# Altium footprint library WalnutPi-CM1.PcbLib: 1 footprints
Each footprint in its own frame and in the unit in brackets; x right, y up, seen from the top. Pads: shape width x height; smd on the part's side, far side on the other; paste and mask are expansions set on the pad; w line width, h text height; cw(c..) or ccw(c..) is an arc to the next point about the centre after c.
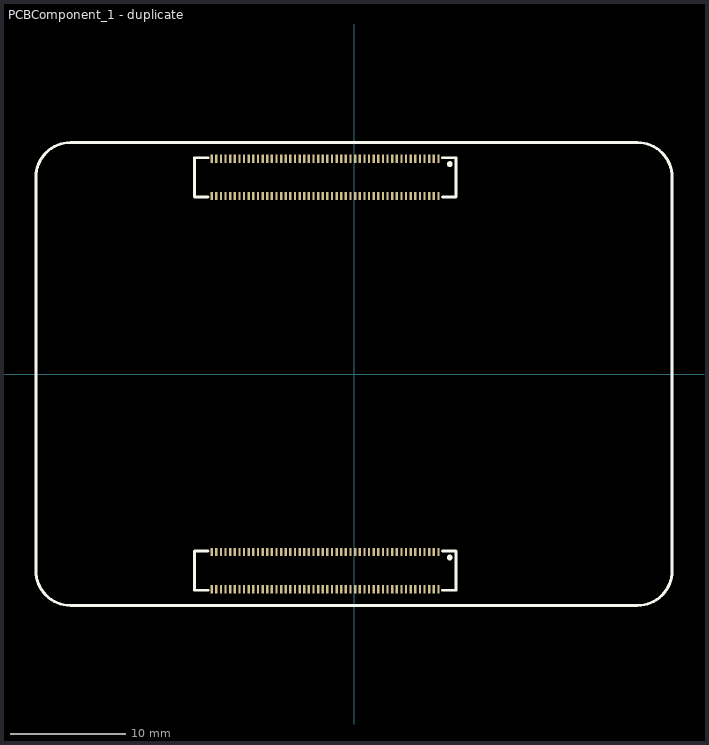
[diagram p0: the footprint, top view; thin cyan lines are the x and y axes]

## PCBComponent_1 - duplicate [mm]
pads (200):
  rect 0.2x0.7 smd: 1(7.3,18.6) 2(7.3,15.4) 3(6.9,18.6) 4(6.9,15.4) 5(6.5,18.6) 6(6.5,15.4) 7(6.1,18.6) 8(6.1,15.4) 9(5.7,18.6) 10(5.7,15.4) 11(5.3,18.6) 12(5.3,15.4) 13(4.9,18.6) 14(4.9,15.4) 15(4.5,18.6) 16(4.5,15.4) 17(4.1,18.6) 18(4.1,15.4) 19(3.7,18.6) 20(3.7,15.4) 21(3.3,18.6) 22(3.3,15.4) 23(2.9,18.6) 24(2.9,15.4) 25(2.5,18.6) 26(2.5,15.4) 27(2.1,18.6) 28(2.1,15.4) 29(1.7,18.6) 30(1.7,15.4) 31(1.3,18.6) 32(1.3,15.4) 33(0.9,18.6) 34(0.9,15.4) 35(0.5,18.6) 36(0.5,15.4) 37(0.1,18.6) 38(0.1,15.4) 39(-0.3,18.6) 40(-0.3,15.4) 41(-0.7,18.6) 42(-0.7,15.4) 43(-1.1,18.6) 44(-1.1,15.4) 45(-1.5,18.6) 46(-1.5,15.4) 47(-1.9,18.6) 48(-1.9,15.4) 49(-2.3,18.6) 50(-2.3,15.4) 51(-2.7,18.6) 52(-2.7,15.4) 53(-3.1,18.6) 54(-3.1,15.4) 55(-3.5,18.6) 56(-3.5,15.4) 57(-3.9,18.6) 58(-3.9,15.4) 59(-4.3,18.6) 60(-4.3,15.4) 61(-4.7,18.6) 62(-4.7,15.4) 63(-5.1,18.6) 64(-5.1,15.4) 65(-5.5,18.6) 66(-5.5,15.4) 67(-5.9,18.6) 68(-5.9,15.4) 69(-6.3,18.6) 70(-6.3,15.4) 71(-6.7,18.6) 72(-6.7,15.4) 73(-7.1,18.6) 74(-7.1,15.4) 75(-7.5,18.6) 76(-7.5,15.4) 77(-7.9,18.6) 78(-7.9,15.4) 79(-8.3,18.6) 80(-8.3,15.4) 81(-8.7,18.6) 82(-8.7,15.4) 83(-9.1,18.6) 84(-9.1,15.4) 85(-9.5,18.6) 86(-9.5,15.4) 87(-9.9,18.6) 88(-9.9,15.4) 89(-10.3,18.6) 90(-10.3,15.4) 91(-10.7,18.6) 92(-10.7,15.4) 93(-11.1,18.6) 94(-11.1,15.4) 95(-11.5,18.6) 96(-11.5,15.4) 97(-11.9,18.6) 98(-11.9,15.4) 99(-12.3,18.6) 100(-12.3,15.4) 101(7.3,-15.4) 102(7.3,-18.6) 103(6.9,-15.4) 104(6.9,-18.6) 105(6.5,-15.4) 106(6.5,-18.6) 107(6.1,-15.4) 108(6.1,-18.6) 109(5.7,-15.4) 110(5.7,-18.6) 111(5.3,-15.4) 112(5.3,-18.6) 113(4.9,-15.4) 114(4.9,-18.6) 115(4.5,-15.4) 116(4.5,-18.6) 117(4.1,-15.4) 118(4.1,-18.6) 119(3.7,-15.4) 120(3.7,-18.6) 121(3.3,-15.4) 122(3.3,-18.6) 123(2.9,-15.4) 124(2.9,-18.6) 125(2.5,-15.4) 126(2.5,-18.6) 127(2.1,-15.4) 128(2.1,-18.6) 129(1.7,-15.4) 130(1.7,-18.6) 131(1.3,-15.4) 132(1.3,-18.6) 133(0.9,-15.4) 134(0.9,-18.6) 135(0.5,-15.4) 136(0.5,-18.6) 137(0.1,-15.4) 138(0.1,-18.6) 139(-0.3,-15.4) 140(-0.3,-18.6) 141(-0.7,-15.4) 142(-0.7,-18.6) 143(-1.1,-15.4) 144(-1.1,-18.6) 145(-1.5,-15.4) 146(-1.5,-18.6) 147(-1.9,-15.4) 148(-1.9,-18.6) 149(-2.3,-15.4) 150(-2.3,-18.6) 151(-2.7,-15.4) 152(-2.7,-18.6) 153(-3.1,-15.4) 154(-3.1,-18.6) 155(-3.5,-15.4) 156(-3.5,-18.6) 157(-3.9,-15.4) 158(-3.9,-18.6) 159(-4.3,-15.4) 160(-4.3,-18.6) 161(-4.7,-15.4) 162(-4.7,-18.6) 163(-5.1,-15.4) 164(-5.1,-18.6) 165(-5.5,-15.4) 166(-5.5,-18.6) 167(-5.9,-15.4) 168(-5.9,-18.6) 169(-6.3,-15.4) 170(-6.3,-18.6) 171(-6.7,-15.4) 172(-6.7,-18.6) 173(-7.1,-15.4) 174(-7.1,-18.6) 175(-7.5,-15.4) 176(-7.5,-18.6) 177(-7.9,-15.4) 178(-7.9,-18.6) 179(-8.3,-15.4) 180(-8.3,-18.6) 181(-8.7,-15.4) 182(-8.7,-18.6) 183(-9.1,-15.4) 184(-9.1,-18.6) 185(-9.5,-15.4) 186(-9.5,-18.6) 187(-9.9,-15.4) 188(-9.9,-18.6) 189(-10.3,-15.4) 190(-10.3,-18.6) 191(-10.7,-15.4) 192(-10.7,-18.6) 193(-11.1,-15.4) 194(-11.1,-18.6) 195(-11.5,-15.4) 196(-11.5,-18.6) 197(-11.9,-15.4) 198(-11.9,-18.6) 199(-12.3,-15.4) 200(-12.3,-18.6)
Top Overlay:
  circle w0.254: c8.279,-15.857 r0.127
  circle w0.254: c8.279,18.143 r0.127
  lines w0.254: -12.631,-18.69 -13.8,-18.69 -13.8,-15.31 -12.631,-15.31 ; -12.631,15.31 -13.8,15.31 -13.8,18.69 -12.631,18.69 ; 7.631,-18.69 8.8,-18.69 8.8,-15.31 7.631,-15.31 ; 7.631,15.31 8.8,15.31 8.8,18.69 7.631,18.69 ; -27.5,-17 ccw(c-24.5,-17) -24.5,-20 24.5,-20 ccw(c24.5,-17) 27.5,-17 27.5,17 ccw(c24.5,17) 24.5,20 -24.5,20 ccw(c-24.5,17) -27.5,17 -27.5,-17